# Altium footprint library RF-UNIT-QRP.PcbLib: 40 footprints (part 1 of 3)
Each footprint in its own frame and in the unit in brackets; x right, y up, seen from the top. Pads: shape width x height; smd on the part's side, far side on the other; paste and mask are expansions set on the pad; w line width, h text height; cw(c..) or ccw(c..) is an arc to the next point about the centre after c.
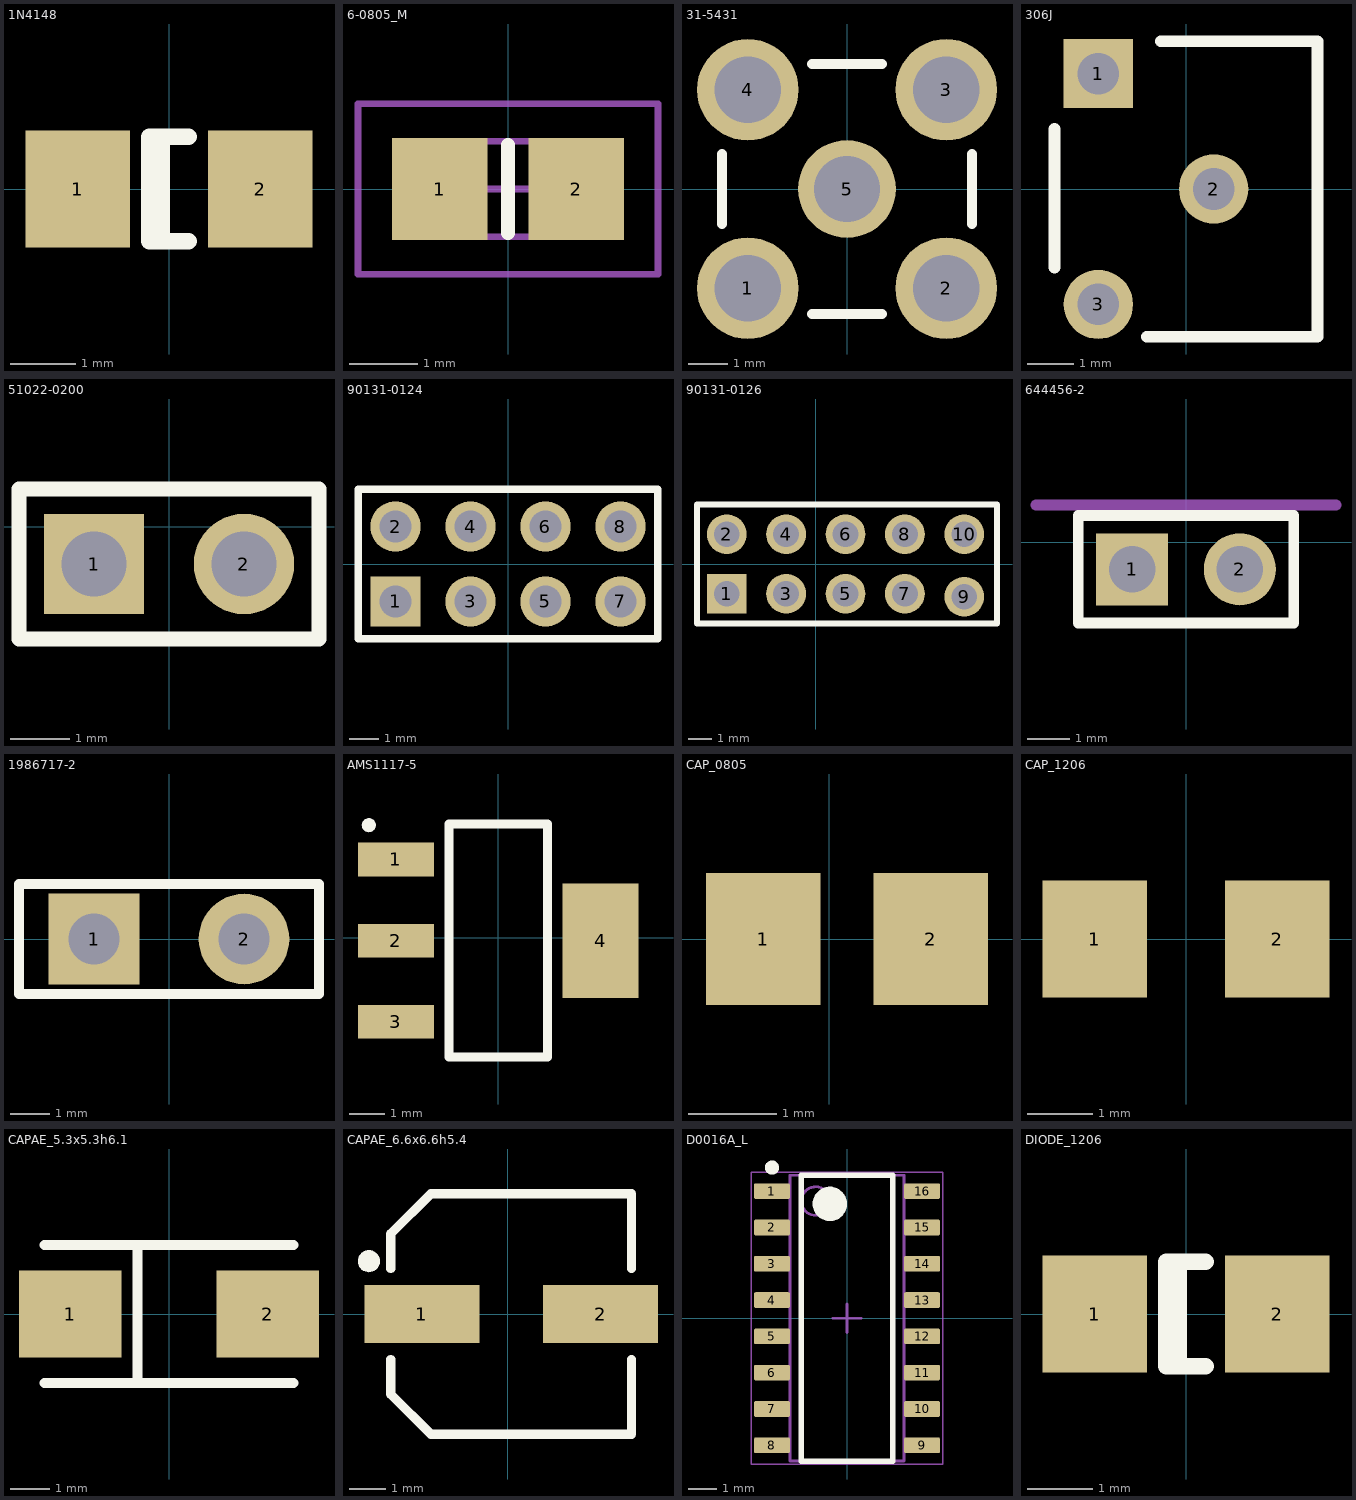
[diagram p0: the footprints below, top view; thin cyan lines are the x and y axes]

## 1N4148 [mm]
pads (2):
  rect 1.6x1.8 smd: 1(-1.4,0) 2(1.4,0)
Top Overlay:
  lines w0.254: -0.111,-0.799 -0.111,0.799 ; 0.299,-0.799 -0.299,-0.799 -0.3,0.799 0.299,0.799

## 6-0805_M [mm] "Chip Resistor, Body 2.0x1.2mm, IPC Low Density"
height 0.7
pads (2):
  rect 1.4x1.5 smd: 1(-1,0) 2(1,0)
Top Overlay:
  lines w0.2: 0,-0.65 0,0.65
Mechanical 13:
  lines w0.1: -1.075,-0.7 1.075,-0.7 1.075,0.7 -1.075,0.7 -1.075,-0.7
Mechanical 15:
  lines w0.1: -0.5,0 0.5,0 ; 0,-0.5 0,0.5 ; -2.2,-1.25 2.2,-1.25 2.2,1.25 -2.2,1.25 -2.2,-1.25
3D body: height 0.7, standoff 0, extent -1.075,-0.7 1.075,0.7

## 31-5431 [mm]
pads (5):
  round 2.6 hole 1.7: 1(-2.54,-2.54) 2(2.54,-2.54) 3(2.54,2.54) 4(-2.54,2.54)
  round 2.5 hole 1.7: 5(0,0)
Top Overlay:
  lines w0.254: -3.199,-0.9 -3.199,0.9 ; -0.9,-3.199 0.9,-3.199 ; -0.9,3.199 0.9,3.199 ; 3.199,-0.9 3.199,0.9

## 306J [mm]
pads (3):
  rect 1.5x1.5 hole 0.9: 1(-1.9,2.5)
  round 1.5 hole 0.9: 2(0.6,0) 3(-1.9,-2.5)
Top Overlay:
  lines w0.254: -2.85,-1.7 -2.85,0 -2.85,1.3 ; -0.85,-3.2 2.85,-3.2 2.85,3.2 -0.55,3.2

## 51022-0200 [mm]
pads (2):
  rect 1.7x1.7 hole 1.1: 1(-1.27,-0.635)
  round 1.7 hole 1.1: 2(1.27,-0.635)
Top Overlay:
  lines w0.254: -2.54,-1.905 2.54,-1.905 2.54,0.635 -2.54,0.635 -2.54,-1.905

## 90131-0124 [mm]
pads (8):
  rect 1.7x1.7 hole 1.1: 1(-3.81,-1.27)
  round 1.7 hole 1.1: 2(-3.81,1.27) 3(-1.27,-1.27) 4(-1.27,1.27) 5(1.27,-1.27) 6(1.27,1.27) 7(3.81,-1.27) 8(3.81,1.27)
Top Overlay:
  lines w0.254: -5.08,-2.54 -5.08,2.54 5.08,2.54 5.08,-2.54 -5.08,-2.54

## 90131-0126 [mm]
pads (10):
  rect 1.7x1.7 hole 1.1: 1(-3.81,-1.27)
  round 1.7 hole 1.1: 2(-3.81,1.27) 3(-1.27,-1.27) 4(-1.27,1.27) 5(1.27,-1.27) 6(1.27,1.27) 7(3.81,-1.27) 8(3.81,1.27) 9(6.35,-1.397) 10(6.35,1.27)
Top Overlay:
  lines w0.254: -5.08,-2.54 7.747,-2.54 7.747,2.54 -5.08,2.54 -5.08,-2.54

## 644456-2 [mm]
pads (2):
  rect 1.7x1.7 hole 1.1: 1(-1.27,-0.635)
  round 1.7 hole 1.1: 2(1.27,-0.635)
Top Overlay:
  lines w0.254: -2.54,-1.905 2.54,-1.905 2.54,0.635 -2.54,0.635 -2.54,-1.905
Mechanical 1:
  lines w0.254: -3.54,0.885 3.54,0.885
  text "BOARD EDGE" at -2.182,1.001 h0.42

## 1986717-2 [mm]
pads (2):
  rect 2.3x2.3 hole 1.3: 1(-1.905,0)
  round 2.3 hole 1.3: 2(1.905,0)
Top Overlay:
  lines w0.254: -3.81,-1.4 -3.81,1.4 3.81,1.4 3.81,-1.4 -3.81,-1.4

## AMS1117-5 [mm]
pads (4):
  rect 2.15x0.95 smd: 1(-2.9,2.215) 2(-2.9,-0.085) 3(-2.9,-2.385)
  rect 2.15x3.25 smd: 4(2.9,-0.085)
Top Overlay:
  region: -3.471,3.189 -3.474,3.223 -3.483,3.256 -3.497,3.287 -3.517,3.315 -3.541,3.339 -3.569,3.358 -3.6,3.373 -3.633,3.381 -3.667,3.384 -3.701,3.381 -3.734,3.373 -3.765,3.358 -3.793,3.339 -3.817,3.315 -3.837,3.287 -3.851,3.256 -3.86,3.223 -3.863,3.189 -3.86,3.155 -3.851,3.122 -3.837,3.091 -3.817,3.063 -3.793,3.039 -3.765,3.019 -3.734,3.005 -3.701,2.996 -3.667,2.993 -3.633,2.996 -3.6,3.005 -3.569,3.019 -3.541,3.039 -3.517,3.063 -3.497,3.091 -3.483,3.122 -3.474,3.155
  lines w0.254: -1.4,-3.384 -1.4,3.215 1.4,3.215 1.4,-3.384 -1.4,-3.384

## CAP_0805 [mm]
pads (2):
  rect 1.3x1.5 smd: 1(-0.75,0) 2(1.15,0)

## CAP_1206 [mm]
pads (2):
  rect 1.6x1.8 smd: 1(-1.4,0) 2(1.4,0)

## CAPAE_5.3x5.3h6.1 [mm]
pads (2):
  rect 2.6x2.2 smd: 1(-2.5,0) 2(2.5,0)
Top Overlay:
  lines w0.254: -3.15,-1.75 3.15,-1.75 ; -3.15,1.75 3.15,1.75 ; -0.8,-1.75 -0.8,1.75

## CAPAE_6.6x6.6h5.4 [mm]
pads (2):
  rect 3.15x1.6 smd: 1(-2.362,0) 2(2.538,0)
Top Overlay:
  region: -3.513,1.45 -3.518,1.502 -3.531,1.552 -3.553,1.6 -3.583,1.643 -3.62,1.679 -3.663,1.709 -3.71,1.732 -3.761,1.745 -3.813,1.75 -3.865,1.745 -3.915,1.732 -3.963,1.709 -4.005,1.679 -4.042,1.643 -4.072,1.6 -4.094,1.552 -4.108,1.502 -4.112,1.45 -4.108,1.398 -4.094,1.347 -4.072,1.3 -4.042,1.257 -4.005,1.22 -3.963,1.19 -3.915,1.168 -3.865,1.154 -3.813,1.15 -3.761,1.154 -3.71,1.168 -3.663,1.19 -3.62,1.22 -3.583,1.257 -3.553,1.3 -3.531,1.347 -3.518,1.398
  lines w0.254: -3.212,-1.25 -3.212,-2.2 -2.112,-3.3 3.387,-3.3 3.388,-1.25 ; -3.212,1.25 -3.212,2.2 -2.112,3.3 3.387,3.3 3.388,1.25

## D0016A_L [mm] "SOIC, 16-Leads, Body 10x4mm, Pitch 1.27mm, IPC High Density"
height 1.75
pads (16):
  rrect18% 1.25x0.55 smd: 1(-2.625,4.445) 2(-2.625,3.175) 3(-2.625,1.905) 4(-2.625,0.635) 5(-2.625,-0.635) 6(-2.625,-1.905) 7(-2.625,-3.175) 8(-2.625,-4.445) 9(2.625,-4.445) 10(2.625,-3.175) 11(2.625,-1.905) 12(2.625,-0.635) 13(2.625,0.635) 14(2.625,1.905) 15(2.625,3.175) 16(2.625,4.445)
Top Overlay:
  circle w0.6: c-0.6,4 r0.3
  circle w0.25: c-2.625,5.27 r0.125
  lines w0.2: -1.6,-5 1.6,-5 1.6,5 -1.6,5 -1.6,-5
Mechanical 1:
  text ".Designator" at -1.531,-0.319 h0.8
Mechanical 13:
  circle w0.1: c-1.1,4.1 r0.5
  lines w0.1: -2,-5 2,-5 2,5 -2,5 -2,-5
Mechanical 15:
  lines w0.05: -3.35,-5.1 3.35,-5.1 3.35,5.1 -3.35,5.1 -3.35,-5.1
  lines w0.1: -0.5,0 0.5,0 ; 0,-0.5 0,0.5
3D body "SOIC-16akaD0016AakaM16A.stp": height 1.59, standoff -0.01, extent -2.997,-4.953 2.997,4.953

## DIODE_1206 [mm]
pads (2):
  rect 1.6x1.8 smd: 1(-1.4,0) 2(1.4,0)
Top Overlay:
  lines w0.254: -0.111,-0.799 -0.111,0.799 ; 0.299,-0.799 -0.299,-0.799 -0.3,0.799 0.299,0.799